# Altium schematic symbol library USB_Connector.SchLib: 2 symbols
Pins are listed as number, name and electrical type; pins without a type are passive.

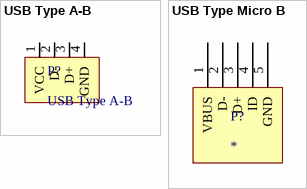
[diagram p0: symbols USB Type A-B to USB Type Micro B]

## USB Type A-B
designator P?
Connector Type A or B; Digi-Key Part Number: 1175-1017-ND
footprint USB Type A (USB Connector A)
footprint USB Type B (USB Connector B)
footprint USB Type A Vertical
pins: 1 VCC, 2 D-, 3 D+, 4 GND

## USB Type Micro B
designator P?
Connector Type Micro B; Digi-Key Part Number: 609-4052-1-ND
footprint USB Type Micro B (USB Connector Micro B)
pins: 1 VBUS, 2 D-, 3 D+, 4 ID, 5 GND